# Altium footprint library NewLibrary.PcbLib: 125 footprints (part 6 of 8)
Each footprint in its own frame and in the unit in brackets; x right, y up, seen from the top. Pads: shape width x height; smd on the part's side, far side on the other; paste and mask are expansions set on the pad; w line width, h text height; cw(c..) or ccw(c..) is an arc to the next point about the centre after c.
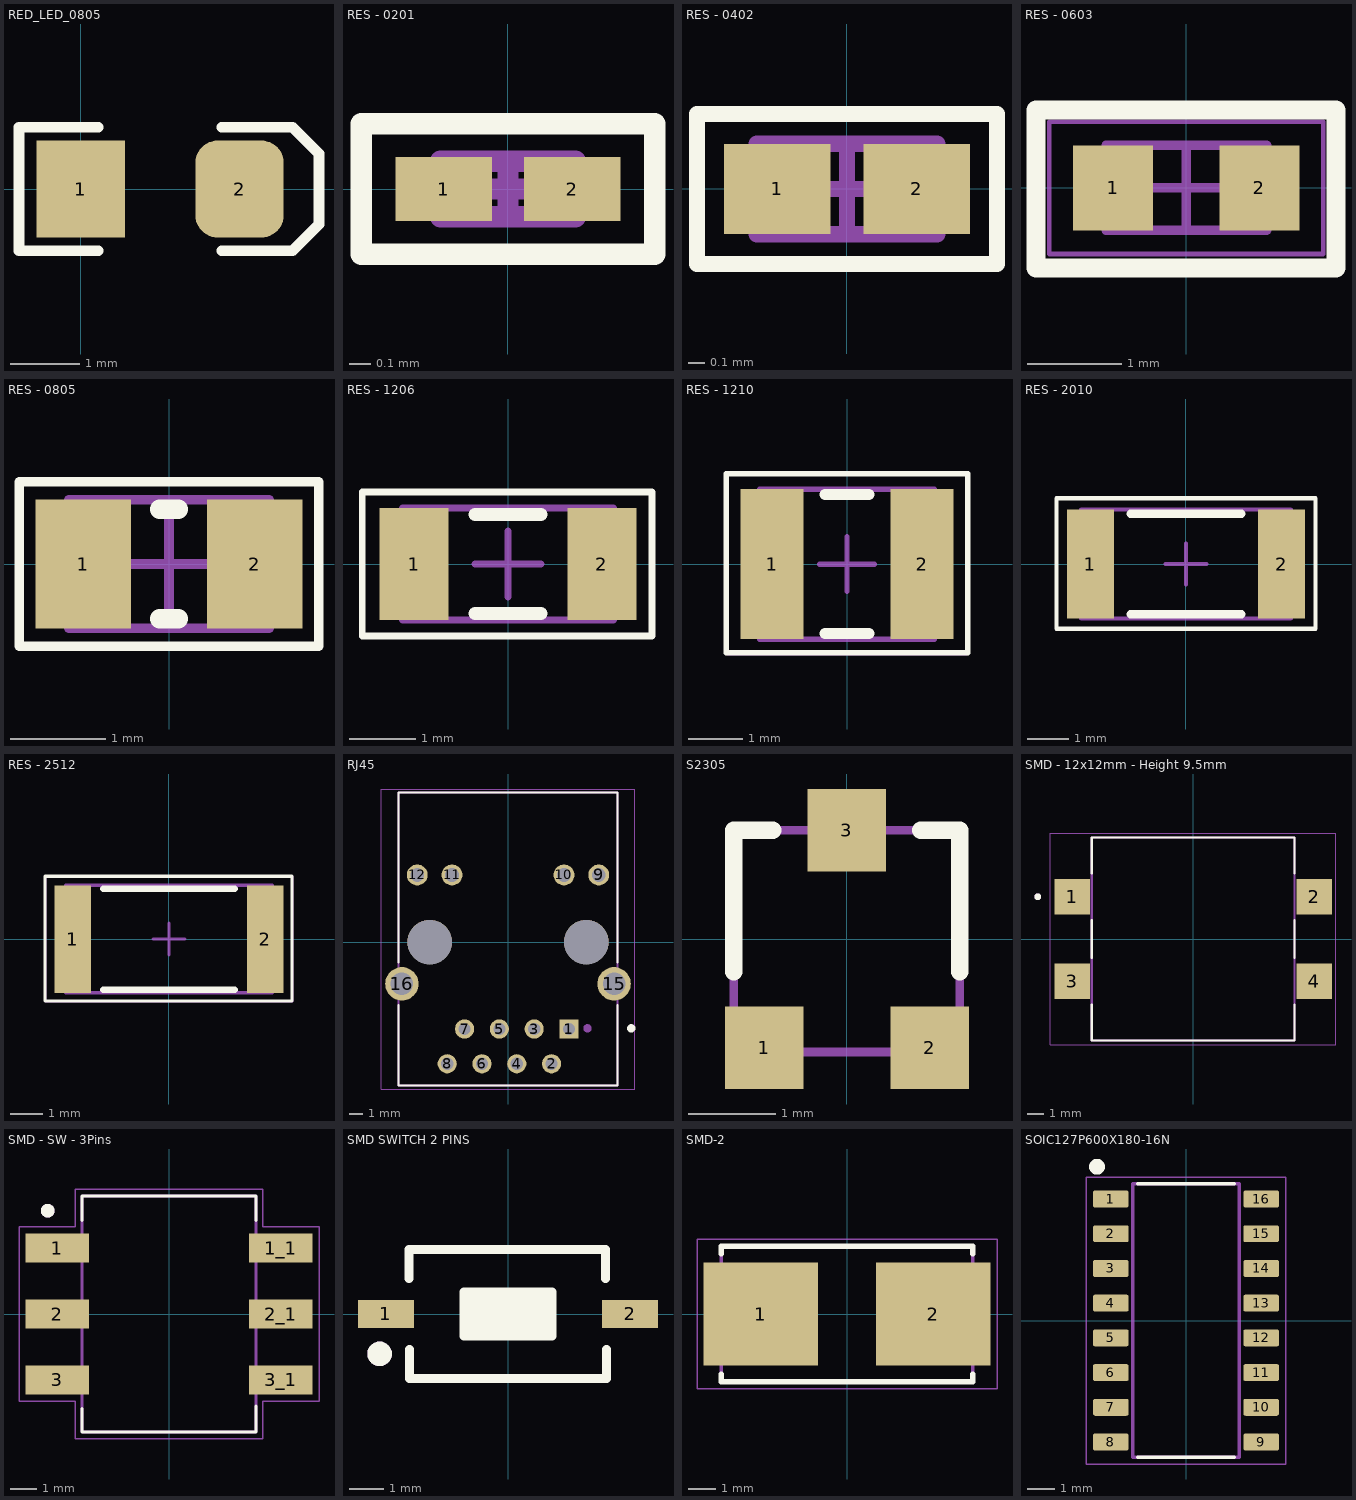
[diagram p5: the footprints below, top view; thin cyan lines are the x and y axes]

## RED_LED_0805 [mil] "SMD"
pads (2):
  rect 50x55 smd: 1(-0.01,-0.02)
  rrect50% 50x55 smd: 2(89.99,-0.02)
Top Overlay:
  lines w6: 10,-35 -35,-35 -35,35 10,35 ; 80,-35 120,-35 135,-20 135,0 135,20 120,35 80,35
3D body "User Library-led_0805-red.step": height 43.31, standoff 0, extent 5.24,-24.62 84.77,24.59

## RES - 0201 [mm] "Resistor SMD - 0.6x0.3mm - YAGEO"
height 0.26
pads (2):
  rect 0.45x0.3 smd: 1(-0.3,0) 2(0.3,0)
Top Overlay:
  lines w0.1: -0.686,-0.305 -0.686,0.305 0.686,0.305 0.686,-0.305 -0.686,-0.305
Mechanical 13:
  lines w0.1: -0.315,-0.13 0.315,-0.13 0.315,0.13 -0.315,0.13 -0.315,-0.13
Mechanical 15:
  lines w0.05: -0.7,-0.3 0.7,-0.3 0.7,0.3 -0.7,0.3 -0.7,-0.3
  lines w0.1: -0.13,0 0.13,0 ; 0,-0.13 0,0.13
3D body "RES - 0201.step": height 0.26, standoff 0, extent -0.315,-0.13 0.315,0.13

## RES - 0402 [mm] "Resistor SMD - 1.0x0.5mm - YAGEO"
height 0.35
pads (2):
  rect 0.65x0.55 smd: 1(-0.425,0) 2(0.425,0)
Top Overlay:
  lines w0.1: -0.914,-0.457 0.914,-0.457 0.914,0.457 -0.914,0.457 -0.914,-0.457
Mechanical 13:
  lines w0.1: -0.55,-0.275 0.55,-0.275 0.55,0.275 -0.55,0.275 -0.55,-0.275
Mechanical 15:
  lines w0.05: -0.9,-0.45 0.9,-0.45 0.9,0.45 -0.9,0.45 -0.9,-0.45
  lines w0.1: -0.275,0 0.275,0 ; 0,-0.275 0,0.275
3D body "RES - 0402.step": height 0.35, standoff 0, extent -0.55,-0.275 0.55,0.275

## RES - 0603 [mm] "Resistor SMD - 1.6x0.8mm - YAGEO"
height 0.55
pads (2):
  rect 0.85x0.9 smd: 1(-0.775,0) 2(0.775,0)
Top Overlay:
  lines w0.2: -1.591,-0.847 -1.591,0.824 1.585,0.824 1.585,-0.847 -1.591,-0.847
Mechanical 13:
  lines w0.1: -0.85,-0.45 0.85,-0.45 0.85,0.45 -0.85,0.45 -0.85,-0.45
Mechanical 15:
  lines w0.05: -1.45,-0.7 1.45,-0.7 1.45,0.7 -1.45,0.7 -1.45,-0.7
  lines w0.1: -0.45,0 0.45,0 ; 0,-0.45 0,0.45
3D body "RES - 0603.step": height 0.55, standoff 0, extent -0.85,-0.45 0.85,0.45

## RES - 0805 [mm] "Resistor SMD - 2.0x1.25mm -YAGEO"
height 0.6
pads (2):
  rect 1x1.35 smd: 1(-0.9,0) 2(0.9,0)
Top Overlay:
  lines w0.1: -1.575,-0.864 1.575,-0.864 1.575,0.864 -1.295,0.864 -1.575,0.864 -1.575,0.813 -1.575,-0.864
  lines w0.2: -0.1,-0.575 0.1,-0.575 ; -0.1,0.575 0.1,0.575
Mechanical 13:
  lines w0.1: -1.05,-0.675 1.05,-0.675 1.05,0.675 -1.05,0.675 -1.05,-0.675
Mechanical 15:
  lines w0.1: -0.5,0 0.5,0 ; 0,-0.5 0,0.5
3D body "RES - 0805 .step": height 0.6, standoff 0, extent -1.05,-0.675 1.05,0.675

## RES - 1206 [mm] "Resistor SMD - 3.1x1.6mm - YAGEO"
height 0.65
pads (2):
  rect 1.05x1.7 smd: 1(-1.425,0) 2(1.425,0)
Top Overlay:
  lines w0.1: -2.21,-1.092 2.184,-1.092 2.184,1.092 -2.21,1.092 -2.21,-1.092
  lines w0.2: -0.5,-0.75 0.5,-0.75 ; -0.5,0.75 0.5,0.75
Mechanical 13:
  lines w0.1: -1.6,-0.85 1.6,-0.85 1.6,0.85 -1.6,0.85 -1.6,-0.85
Mechanical 15:
  lines w0.05: -2.2,-1.1 2.2,-1.1 2.2,1.1 -2.2,1.1 -2.2,-1.1
  lines w0.1: -0.5,0 0.5,0 ; 0,-0.5 0,0.5
3D body "RES - 1206.step": height 0.65, standoff 0, extent -1.6,-0.85 1.6,0.85

## RES - 1210 [mm] "Resistor SMD - 3.1x2.6mm - YAGEO"
height 0.65
pads (2):
  rect 1.15x2.75 smd: 1(-1.375,0) 2(1.375,0)
Top Overlay:
  lines w0.1: -2.21,-1.626 -2.21,1.651 2.21,1.651 2.21,-1.626 -2.21,-1.626
  lines w0.2: -0.4,-1.275 0.4,-1.275 ; -0.4,1.275 0.4,1.275
Mechanical 13:
  lines w0.1: -1.6,-1.375 1.6,-1.375 1.6,1.375 -1.6,1.375 -1.6,-1.375
Mechanical 15:
  lines w0.05: -2.2,-1.65 2.2,-1.65 2.2,1.65 -2.2,1.65 -2.2,-1.65
  lines w0.1: -0.5,0 0.5,0 ; 0,-0.5 0,0.5
3D body "RES - 1210.step": height 0.65, standoff 0, extent -1.6,-1.375 1.6,1.375

## RES - 2010 [mm] "Resistor SMD - 5.0x2.5mm -  YAGEO"
height 0.65
pads (2):
  rect 1.15x2.65 smd: 1(-2.325,0) 2(2.325,0)
Top Overlay:
  lines w0.1: -3.15,-1.575 -3.15,1.6 3.15,1.6 3.15,-1.575 -3.15,-1.575
  lines w0.2: -1.35,-1.225 1.35,-1.225 ; -1.35,1.225 1.35,1.225
Mechanical 13:
  lines w0.1: -2.55,-1.325 2.55,-1.325 2.55,1.325 -2.55,1.325 -2.55,-1.325
Mechanical 15:
  lines w0.05: -3.15,-1.6 3.15,-1.6 3.15,1.6 -3.15,1.6 -3.15,-1.6
  lines w0.1: -0.5,0 0.5,0 ; 0,-0.5 0,0.5
3D body "RES - 2010.step": height 0.65, standoff 0, extent -2.55,-1.325 2.55,1.325

## RES - 2512 [mm] "Resistor SMD - 6.35x3.2mm - YAGEO"
height 0.65
pads (2):
  rect 1.15x3.35 smd: 1(-3,0) 2(3,0)
Top Overlay:
  lines w0.1: -3.861,-1.93 3.835,-1.93 3.835,1.956 -3.861,1.956 -3.861,-1.93
  lines w0.2: -2.05,-1.575 2.05,-1.575 ; -2.05,1.575 2.05,1.575
Mechanical 13:
  lines w0.1: -3.225,-1.675 3.225,-1.675 3.225,1.675 -3.225,1.675 -3.225,-1.675
Mechanical 15:
  lines w0.05: -3.85,-1.95 3.85,-1.95 3.85,1.95 -3.85,1.95 -3.85,-1.95
  lines w0.1: -0.5,0 0.5,0 ; 0,-0.5 0,0.5
3D body "RES - 2512.step": height 0.65, standoff 0, extent -3.225,-1.675 3.225,1.675

## RJ45 [mm]
pads (16):
  rect 1.398x1.398 / inner round 1.398 / far side rect 1.398x1.398 hole 0.89: 1(4.45,-6.35)
  round 1.398 hole 0.89: 2(3.18,-8.89) 3(1.91,-6.35) 4(0.64,-8.89) 5(-0.63,-6.35) 6(-1.9,-8.89) 7(-3.17,-6.35) 8(-4.44,-8.89)
  round 1.53 hole 1.02: 9(6.625,4.9) 10(4.085,4.9) 11(-4.085,4.9) 12(-6.625,4.9)
  round 2.445 hole 1.63: 15(7.745,-3.05) 16(-7.745,-3.05)
  round 3.25 hole 3.25 unplated: ""(-5.715,0) ""(5.715,0)
Top Overlay:
  circle w0.3: c9,-6.3 r0.15
  lines w0.127: -8,-4.6 -8,-10.48 8,-10.48 8,-4.6 ; -8,-1.5 -8,10.92 8,10.92 8,-1.5
Mechanical 13:
  circle w0.3: c5.8,-6.3 r0.15
  lines w0.127: -8,-10.48 8,-10.48 8,10.92 -8,10.92 -8,-10.48
Mechanical 15:
  lines w0.05: -9.25,-10.73 9.25,-10.73 9.25,11.17 -9.25,11.17 -9.25,-10.73
3D body "step_temp.STEP": height 13.5, standoff -3.05, extent -8.02,-10.398 8.02,10.902

## S2305 [mm] "10.8V Clamp 1A Ipp Tvs Diode Surface Mount SOT-23-3"
pads (3):
  rect 0.9x0.95 smd: 1(-0.95,-1.248) 2(0.955,-1.248) 3(0,1.252)
Top Overlay:
  lines w0.2: -1.3,-0.373 -1.3,1.252 -0.85,1.252 ; 0.85,1.252 1.3,1.252 1.3,-0.373
Mechanical 7:
  region: 1.225,-1.273 0.625,-1.273 0.625,-1.523 1.225,-1.523
  region: -0.625,-1.273 -1.225,-1.273 -1.225,-1.523 -0.625,-1.523
  rectangle: -0.3,1.252 0.3,1.502
  lines w0.1: -1.3,-1.298 1.3,-1.298 1.3,1.252 -1.3,1.252 -1.3,-1.298
3D body "SW3DPS-SOT-23-DEFAULT.STEP": height 1.15, standoff 0.05, extent -1.524,-1.228 1.476,1.272

## SMD - 12x12mm - Height 9.5mm [mm] "SMD"
pads (4):
  rect 2.1x2.1 smd: 1(-7.15,2.5) 2(7.15,2.5) 3(-7.15,-2.5) 4(7.15,-2.5)
Top Overlay:
  circle w0.2: c-9.2,2.5 r0.1
  lines w0.127: -6,-3.87 -6,-6 6,-6 6,-3.87 ; -6,-1.13 -6,1.13 ; -6,3.87 -6,6 6,6 6,3.87 ; 6,-1.13 6,1.13
Mechanical 13:
  circle w0.2: c-9.2,2.5 r0.1
  lines w0.127: -6,-6 6,-6 6,6 -6,6 -6,-6
Mechanical 15:
  lines w0.05: -8.45,-6.25 -8.45,6.25 8.45,6.25 8.45,-6.25 -8.45,-6.25
3D body "step_temp.STEP": height 9.61, standoff 0.01, extent -7.6,-6 7.6,6

## SMD - SW - 3Pins [mm] "Pitch - 2.54mm"
pads (6):
  rect 2.44x1.13 smd: 1(-4.305,2.54) 1_1(4.305,2.54) 2(-4.305,0) 2_1(4.305,0) 3(-4.305,-2.54) 3_1(4.305,-2.54)
Top Overlay:
  circle w0.3: c-4.669,3.977 r0.112
  lines w0.127: -3.35,-3.635 -3.35,-4.545 3.35,-4.545 3.35,-3.556 ; -3.35,3.604 -3.35,4.545 3.35,4.545 3.35,3.604
Mechanical 13:
  circle w0.3: c-4.669,3.977 r0.112
  lines w0.127: -3.35,-4.545 3.35,-4.545 3.35,4.545 -3.35,4.545 -3.35,-4.545
Mechanical 15:
  lines w0.05: -5.775,-3.355 -3.6,-3.355 -3.6,-4.795 3.6,-4.795 3.6,-3.355 5.775,-3.355 5.775,3.355 3.6,3.355 3.6,4.795 -3.6,4.795 -3.6,3.355 -5.775,3.355 -5.775,-3.355
3D body "step_temp.STEP": height 4.2, standoff 0, extent -4.955,-4.545 4.955,4.545

## SMD SWITCH 2 PINS [mm] "SMD"
pads (2):
  rect 1.6x0.8 smd: 1(-3.502,0) 2(3.498,0)
Top Overlay:
  circle w0.5: c-3.683,-1.143 r0.1
  rectangle: -1.272,-0.635 1.268,0.635
  lines w0.254: -2.845,1.016 -2.845,1.854 2.794,1.854 2.794,1.016 ; -2.822,-1.016 -2.822,-1.854 2.817,-1.854 2.817,-1.016 ; -1.272,-0.635 -1.272,0.635 1.268,0.635 1.268,-0.635 -1.272,-0.635
Mechanical 13:
  circle w0.5: c-3.683,-1.143 r0.1
3D body "User Library-Button-SMD.step": height 2.5, standoff 0, extent -3.052,-1.849 3.048,1.851

## SMD-2 [mil]
pads (2):
  rect 167x150 smd paste+0 mask+4.02: 1(-125.5,0) 2(125.5,0)
Top Overlay:
  lines w7.87: -183.66,-87.99 -183.66,-99.02 183.66,-99.02 183.66,-87.99 ; -183.66,87.99 -183.66,99.02 183.66,99.02 183.66,87.99
Mechanical 13:
  lines w5: -183.66,-99.02 -183.66,99.02 183.66,99.02 183.66,-99.02 -183.66,-99.02
Mechanical 15:
  lines w1.97: -218.84,-108.86 218.84,-108.86 218.84,108.86 -218.84,108.86 -218.84,-108.86
3D body "step_temp.STEP": height 150, standoff 0, extent -191.54,-99.02 191.54,99.02

## SOIC127P600X180-16N [mm]
pads (16):
  rrect25% 1.31x0.62 smd: 1(-2.75,4.445) 2(-2.75,3.175) 3(-2.75,1.905) 4(-2.75,0.635) 5(-2.75,-0.635) 6(-2.75,-1.905) 7(-2.75,-3.175) 8(-2.75,-4.445) 9(2.75,-4.445) 10(2.75,-3.175) 11(2.75,-1.905) 12(2.75,-0.635) 13(2.75,0.635) 14(2.75,1.905) 15(2.75,3.175) 16(2.75,4.445)
Top Overlay:
  circle w0.381: c-3.258,5.628 r0.1
  lines w0.127: -1.775,-5 1.775,-5 -1.775,-5 ; -1.775,5 1.775,5 -1.775,5
Mechanical 13:
  circle w0.2: c-3.258,5.628 r0.1
  lines w0.127: -1.95,-5 1.95,-5 1.95,5 -1.95,5 -1.95,-5
Mechanical 15:
  lines w0.05: -3.655,-5.25 -3.655,5.25 3.655,5.25 3.655,-5.25 -3.655,-5.25
3D body "step_temp.STEP": height 1.8, standoff 0, extent -3,-5 3,5